# EAGLE library part JTAG (library DaneGardner)
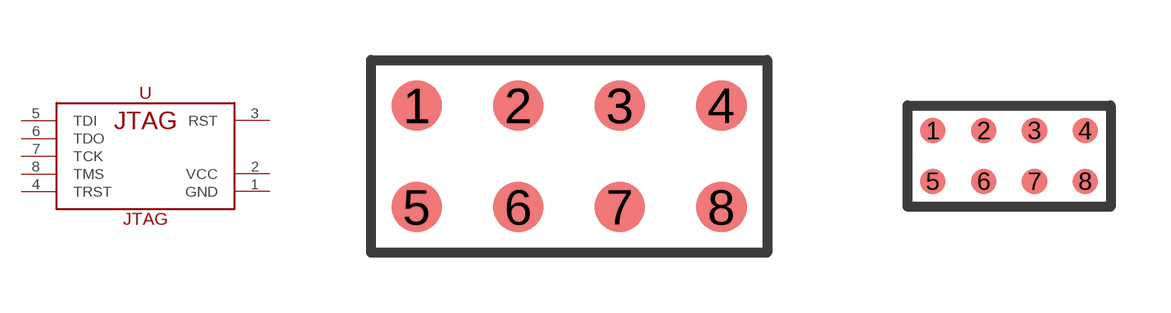
[diagram p6: symbol with the pads of JTAG_SMD_LRG; footprints JTAG_SMD_LRG, JTAG_SMD_MED]

Designator prefix -

## JTAG_LRG  [JTAG_SMD_LRG]
1  GND  pwr
2  VCC  pwr
3  RST  in
4  TRST  in
5  TDI  in
6  TDO  out
7  TCK  in
8  TMS  in

## JTAG_MED  [JTAG_SMD_MED]
Pads as for JTAG_SMD_LRG

## Footprint JTAG_SMD_LRG (pad centres in mm)
smd 1.27 x 1.27: 1 -3.81,1.27; 2 -1.27,1.27; 3 1.27,1.27; 4 3.81,1.27; 5 -3.81,-1.27; 6 -1.27,-1.27; 7 1.27,-1.27; 8 3.81,-1.27

## Footprint JTAG_SMD_MED (pad centres in mm)
smd 0.635 x 0.635: 1 -1.905,0.635; 2 -0.635,0.635; 3 0.635,0.635; 4 1.905,0.635; 5 -1.905,-0.635; 6 -0.635,-0.635; 7 0.635,-0.635; 8 1.905,-0.635